# Altium footprint library DS04-254-2-04BK-SMT-TR.PcbLib: 1 footprints
Each footprint in its own frame and in the unit in brackets; x right, y up, seen from the top. Pads: shape width x height; smd on the part's side, far side on the other; paste and mask are expansions set on the pad; w line width, h text height; cw(c..) or ccw(c..) is an arc to the next point about the centre after c.
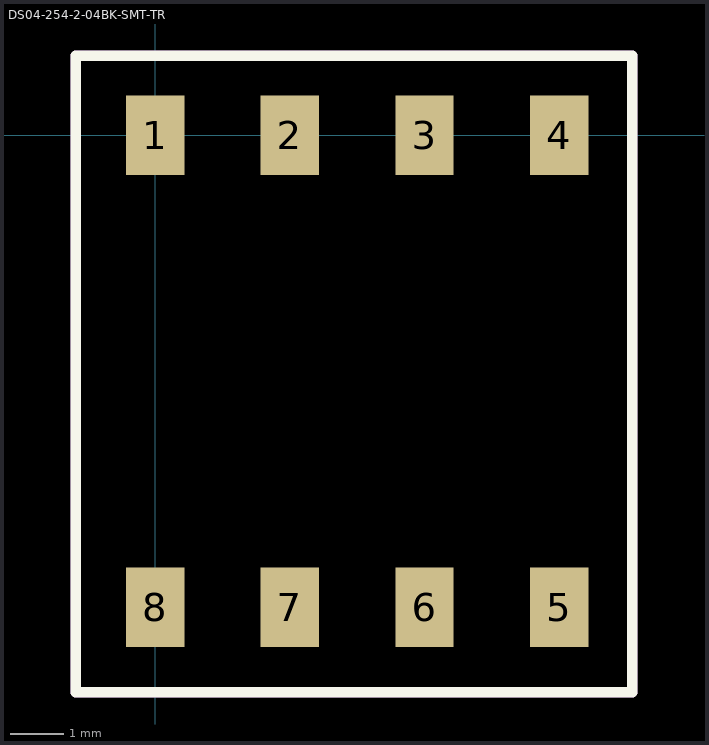
[diagram p0: the footprint, top view; thin cyan lines are the x and y axes]

## DS04-254-2-04BK-SMT-TR [mm] "DIP SWITCH, SPST, 2.54 PITCH, FL"
pads (8):
  rect 1.1x1.5 smd mask+0.06: 1(0,0) 2(2.54,0) 3(5.08,0) 4(7.62,0) 5(7.62,-8.9) 6(5.08,-8.9) 7(2.54,-8.9) 8(0,-8.9)
Top Overlay:
  lines w0.2: -1.5,-10.5 -1.5,1.5 9,1.5 9,-10.5 -1.5,-10.5
Mechanical 16:
  lines w0.2: -1.5,-10.5 -1.5,1.5 9,1.5 9,-10.5 -1.5,-10.5
  text ".Designator" at 2.254,-4.738 h1.52
3D body "CUI_DEVICES_DS04-254-2-04BK-SMT-TR.step": height 4.01, standoff 0.01, extent -1.775,-9.425 9.385,0.475